# EAGLE library part 87368-30 (library con-molex-milli-grid)
RECEPTACAL
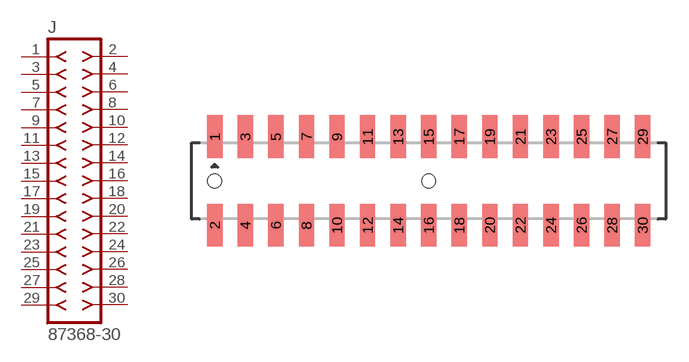
[diagram p194: symbol with the pads of 87368-30; footprint 87368-30]

Designator prefix J

## 87368-30  [87368-30]
1  1  pas
2  2  pas
3  3  pas
4  4  pas
5  5  pas
6  6  pas
7  7  pas
8  8  pas
9  9  pas
10  10  pas
11  11  pas
12  12  pas
13  13  pas
14  14  pas
15  15  pas
16  16  pas
17  17  pas
18  18  pas
19  19  pas
20  20  pas
21  21  pas
22  22  pas
23  23  pas
24  24  pas
25  25  pas
26  26  pas
27  27  pas
28  28  pas
29  29  pas
30  30  pas

## Footprint 87368-30 (pad centres in mm)
RECEPTACAL SMD Dual Row, Side Entry
smd 1 x 2.8: 1 -14,2.9; 2 -14,-2.9; 3 -12,2.9; 4 -12,-2.9; 5 -10,2.9; 6 -10,-2.9; 7 -8,2.9; 8 -8,-2.9; 9 -6,2.9; 10 -6,-2.9; 11 -4,2.9; 12 -4,-2.9; 13 -2,2.9; 14 -2,-2.9; 15 0,2.9; 16 0,-2.9; 17 2,2.9; 18 2,-2.9; 19 4,2.9; 20 4,-2.9; 21 6,2.9; 22 6,-2.9; 23 8,2.9; 24 8,-2.9; 25 10,2.9; 26 10,-2.9; 27 12,2.9; 28 12,-2.9; 29 14,2.9; 30 14,-2.9
hole 0.914 at -14,0
hole 0.914 at 0,0